# EAGLE library part MAX11125ATI+ (library max11125)
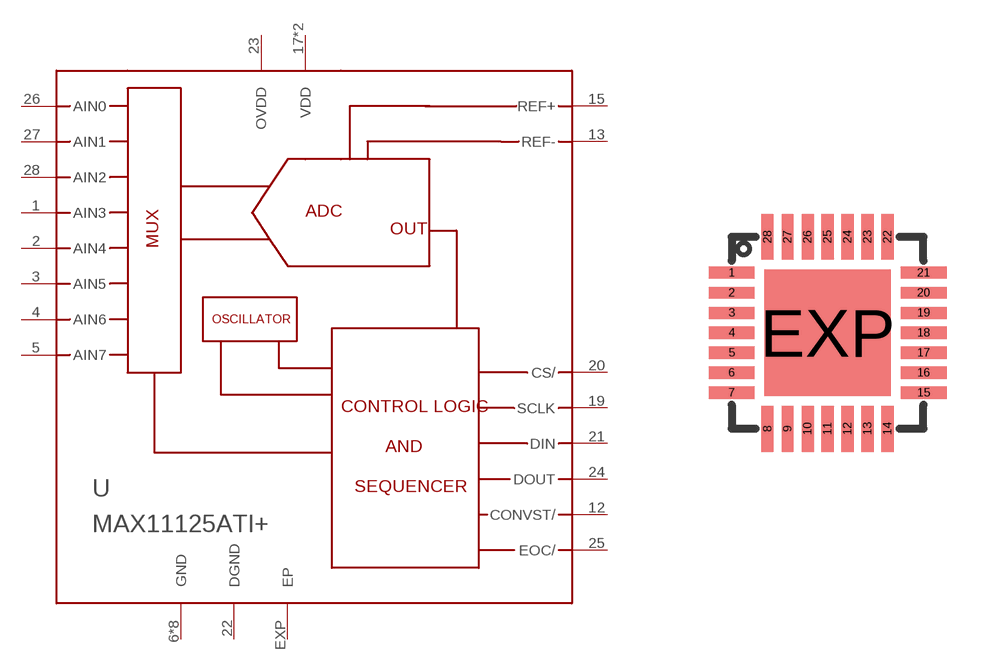
[diagram p0: symbol with the pads of T2855_QFN28_5MM; footprint T2855_QFN28_5MM]

Designator prefix -

## MAX11125ATI+  [T2855_QFN28_5MM]
1  AIN3
2  AIN4
3  AIN5
4  AIN6
5  AIN7
6  GND
7  GND
8  GND
9  GND
10  GND
11  GND
12  CONVST/
13  REF-
14  GND
15  REF+
16  GND
17  VDD
18  VDD
19  SCLK
20  CS/
21  DIN
22  DGND
23  OVDD
24  DOUT
25  EOC/
26  AIN0
27  AIN1
28  AIN2
EXP  EP

## Footprint T2855_QFN28_5MM (pad centres in mm)
smd 1.15 x 0.3: 1 -2.4,1.5; 2 -2.4,1; 3 -2.4,0.5; 4 -2.4,0; 5 -2.4,-0.5; 6 -2.4,-1; 7 -2.4,-1.5; 15 2.4,-1.5; 16 2.4,-1; 17 2.4,-0.5; 18 2.4,0; 19 2.4,0.5; 20 2.4,1; 21 2.4,1.5
smd 0.3 x 1.15: 8 -1.5,-2.4; 9 -1,-2.4; 10 -0.5,-2.4; 11 0,-2.4; 12 0.5,-2.4; 13 1,-2.4; 14 1.5,-2.4; 22 1.5,2.4; 23 1,2.4; 24 0.5,2.4; 25 0,2.4; 26 -0.5,2.4; 27 -1,2.4; 28 -1.5,2.4
smd 3.15 x 3.15: EXP 0,0